# Altium schematic symbol library Triode^MOS^Transistor.SchLib: 8 symbols
Pins are listed as number, name and electrical type; pins without a type are passive.

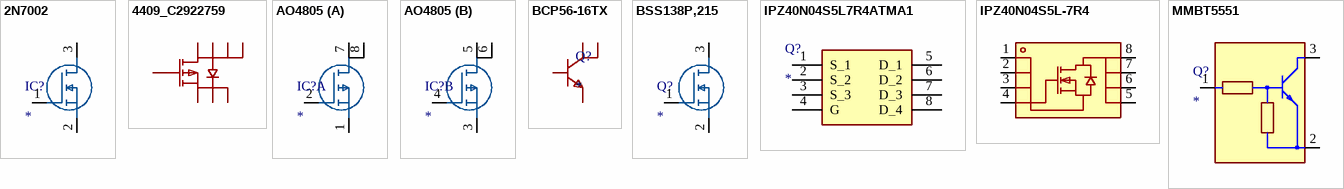
[diagram p0: symbols 2N7002 to MMBT5551]

## 2N7002
designator IC?
Integrated Circuit; Manufacturer_Name: Nylofix; Manufacturer_Part_Number: 2N7002P,235; Datasheet Link: https://4donline.ihs.com/images/VipMasterIC/IC/PHGL/PHGLS21946/PHGLS21946-1.pdf?hkey=EF798316E3902B6ED9A73243A3159BB0; Height: 1.1mm
footprint SOT95P230X110-3N (Footprint not found)
pins: 1 G, 2 S, 3 D

## 4409_C2922759
designator Q??, comment 4409  (value not drawn)
Manufacturer: KUU; Symbol: 4409.0; Device: 4409_C2922759; Add into BOM: yes; Type: 1个P沟道; Drain Source Voltage (Vdss): 30V; Continuous Drain Current (Id): 15A; Drain Source On Resistance (RDS(on)@Vgs,Id): 12mΩ@10V; Power Dissipation (Pd): 3.1W; Gate Threshold Voltage (Vgs(th)@Id): 1V@250uA; Total Gate Charge (Qg@Vgs): 48nC@10V; Input Capacitance (Ciss@Vds): 2.9nF; Reverse Transfer Capacitance (Crss@Vds): 280pF; LCSC Part Name: P沟道增强型功率MOSFET,电流:-15A,耐压:-30V; Supplier Part: C2922759; Manufacturer Part: 4409; Supplier Footprint: SOP-8; JLCPCB Part Class: Extended Part; Datasheet: https://atta.szlcsc.com/upload/public/pdf/source/20211122/144BE14CBC32E189D90AEB5AEC599EE3.pdf; Supplier: LCSC; Convert to PCB: yes; Operating Temperature: -55℃~+150℃
footprint SOP-8_L4.9-W3.8-P1.27-LS6.0-BL
3D model SOP-8_L4.9-W3.8-P1.27-LS6.0-BL
pins: 1 S, 2 S, 3 S, 4 G, 5 D, 6 D, 7 D, 8 D

## AO4805
designator IC?
Integrated Circuit; Manufacturer_Name: Alpha & Omega Semiconductors; Manufacturer_Part_Number: AO4805; Datasheet Link: http://www.aosmd.com/res/data_sheets/AO4805.pdf; Height: 1.75mm; Arrow Part Number: AO4805; Arrow Price/Stock: https://www.arrow.com/en/products/ao4805/alpha-and-omega-semiconductor?utm_currency=USD&region=nac
footprint SOIC127P600X175-8N_AO4805
part A pins: 1 S2, 2 G2, 7 D2, 8 D2
part B pins: 3 S1, 4 G1, 5 D1, 6 D1

## BCP56-16TX
designator Q?
Transistor; Manufacturer_Name: Nexperia; Manufacturer_Part_Number: BCP56-16,115; Datasheet Link: https://assets.nexperia.com/documents/data-sheet/BCP56_BCX56_BC56PA.pdf; Height: 1.8mm; Mouser Part Number: 771-BCP56-16-T/R; Mouser Price/Stock: https://www.mouser.co.uk/ProductDetail/Nexperia/BCP56-16115?qs=me8TqzrmIYWgUkLKLwMxWw%3D%3D; Arrow Part Number: BCP56-16,115; Arrow Price/Stock: https://www.arrow.com/en/products/bcp56-16115/nexperia?utm_currency=USD&region=europe
footprint SOT230P700X180-4N (Footprint not found)
pins: 1 B, 2 C, 3 E, 4 C

## BSS138P,215
designator Q?
MOSFET (N-Channel); Manufacturer_Name: Nexperia; Manufacturer_Part_Number: BSS138P,215; Datasheet Link: https://assets.nexperia.com/documents/data-sheet/BSS138P.pdf; Height: 1.1mm; Mouser Part Number: 771-BSS138P215; Mouser Price/Stock: https://www.mouser.co.uk/ProductDetail/Nexperia/BSS138P215?qs=A1cBxND5mHJyVAOcRahidg%3D%3D; Arrow Part Number: BSS138P,215; Arrow Price/Stock: https://www.arrow.com/en/products/bss138p215/nexperia?utm_currency=USD&region=europe
footprint SOT95P230X110-3N
pins: 1 G, 2 S, 3 D

## IPZ40N04S5L7R4ATMA1
designator Q?
MOSFET (N-Channel); Manufacturer_Name: Infineon; Manufacturer_Part_Number: IPZ40N04S5L7R4ATMA1; Datasheet Link: https://www.infineon.com/dgdl/Infineon-IPZ40N04S5L-7R4-DS-v01_00-EN.pdf?fileId=5546d4624cb7f111014d6601321448a0; Mouser Part Number: 726-IPZ40N04S5L7R4AT; Mouser Price/Stock: https://www.mouser.co.uk/ProductDetail/Infineon-Technologies/IPZ40N04S5L7R4ATMA1?qs=RJIhqtkBntMJfptUOROQRQ%3D%3D; Arrow Part Number: IPZ40N04S5L7R4ATMA1; Arrow Price/Stock: https://www.arrow.com/en/products/ipz40n04s5l7r4atma1/infineon-technologies-ag?region=nac
footprint IPZ40N04S5L7R4ATMA1
pins: 1 S_1, 2 S_2, 3 S_3, 4 G, 5 D_1, 6 D_2, 7 D_3, 8 D_4

## IPZ40N04S5L-7R4
designator Q??  (value not drawn)
Manufacturer: Infineon(英飞凌); Add into BOM: yes; Symbol: IPZ40N04S5L-7R4; Device: IPZ40N04S5L-7R4; LCSC Part Name: IPZ40N04S5L-7R4; Supplier Part: C537509; Manufacturer Part: IPZ40N04S5L-7R4; Supplier Footprint: TSDSON-8-EP(3.3x3.3); JLCPCB Part Class: Extended Part; Datasheet: https://atta.szlcsc.com/upload/public/pdf/source/20200525/C537509_E051284C2A14EA783116935AFB10216D.pdf; Supplier: LCSC; Convert to PCB: yes; Type: -; Drain Source Voltage (Vdss): -; Continuous Drain Current (Id): -; Power Dissipation (Pd): -; Drain Source On Resistance (RDS(on)@Vgs,Id): -; Gate Threshold Voltage (Vgs(th)@Id): -; Total Gate Charge (Qg@Vgs): -; Input Capacitance (Ciss@Vds): -; Reverse Transfer Capacitance (Crss@Vds): -
footprint IPZ40N04S5L7R4ATMA1
pins: 1 S, 2 S, 3 S, 4 G, 5 D, 6 D, 7 D, 8 D

## MMBT5551
designator Q?
Transistor RET NPN; Manufacturer_Name: onsemi; Manufacturer_Part_Number: MMBT5551; Datasheet Link: https://www.onsemi.com/download/data-sheet/pdf/MMBT5551-D.PDF; Height: 1.2mm; Mouser Part Number: 512-MMBT5551; Mouser Price/Stock: https://www.mouser.co.uk/ProductDetail/onsemi-Fairchild/MMBT5551?qs=UMEuL5FsraDifaOdT09XTw%3D%3D; Arrow Part Number: MMBT5551; Arrow Price/Stock: https://www.arrow.com/en/products/mmbt5551/on-semiconductor
footprint SOT95P240X120-3N (Footprint not found)
pins: 1 B, 2 E, 3 C